# Altium footprint library HAKATAYA.PcbLib: 227 footprints (part 4 of 15)
Each footprint in its own frame and in the unit in brackets; x right, y up, seen from the top. Pads: shape width x height; smd on the part's side, far side on the other; paste and mask are expansions set on the pad; w line width, h text height; cw(c..) or ccw(c..) is an arc to the next point about the centre after c.
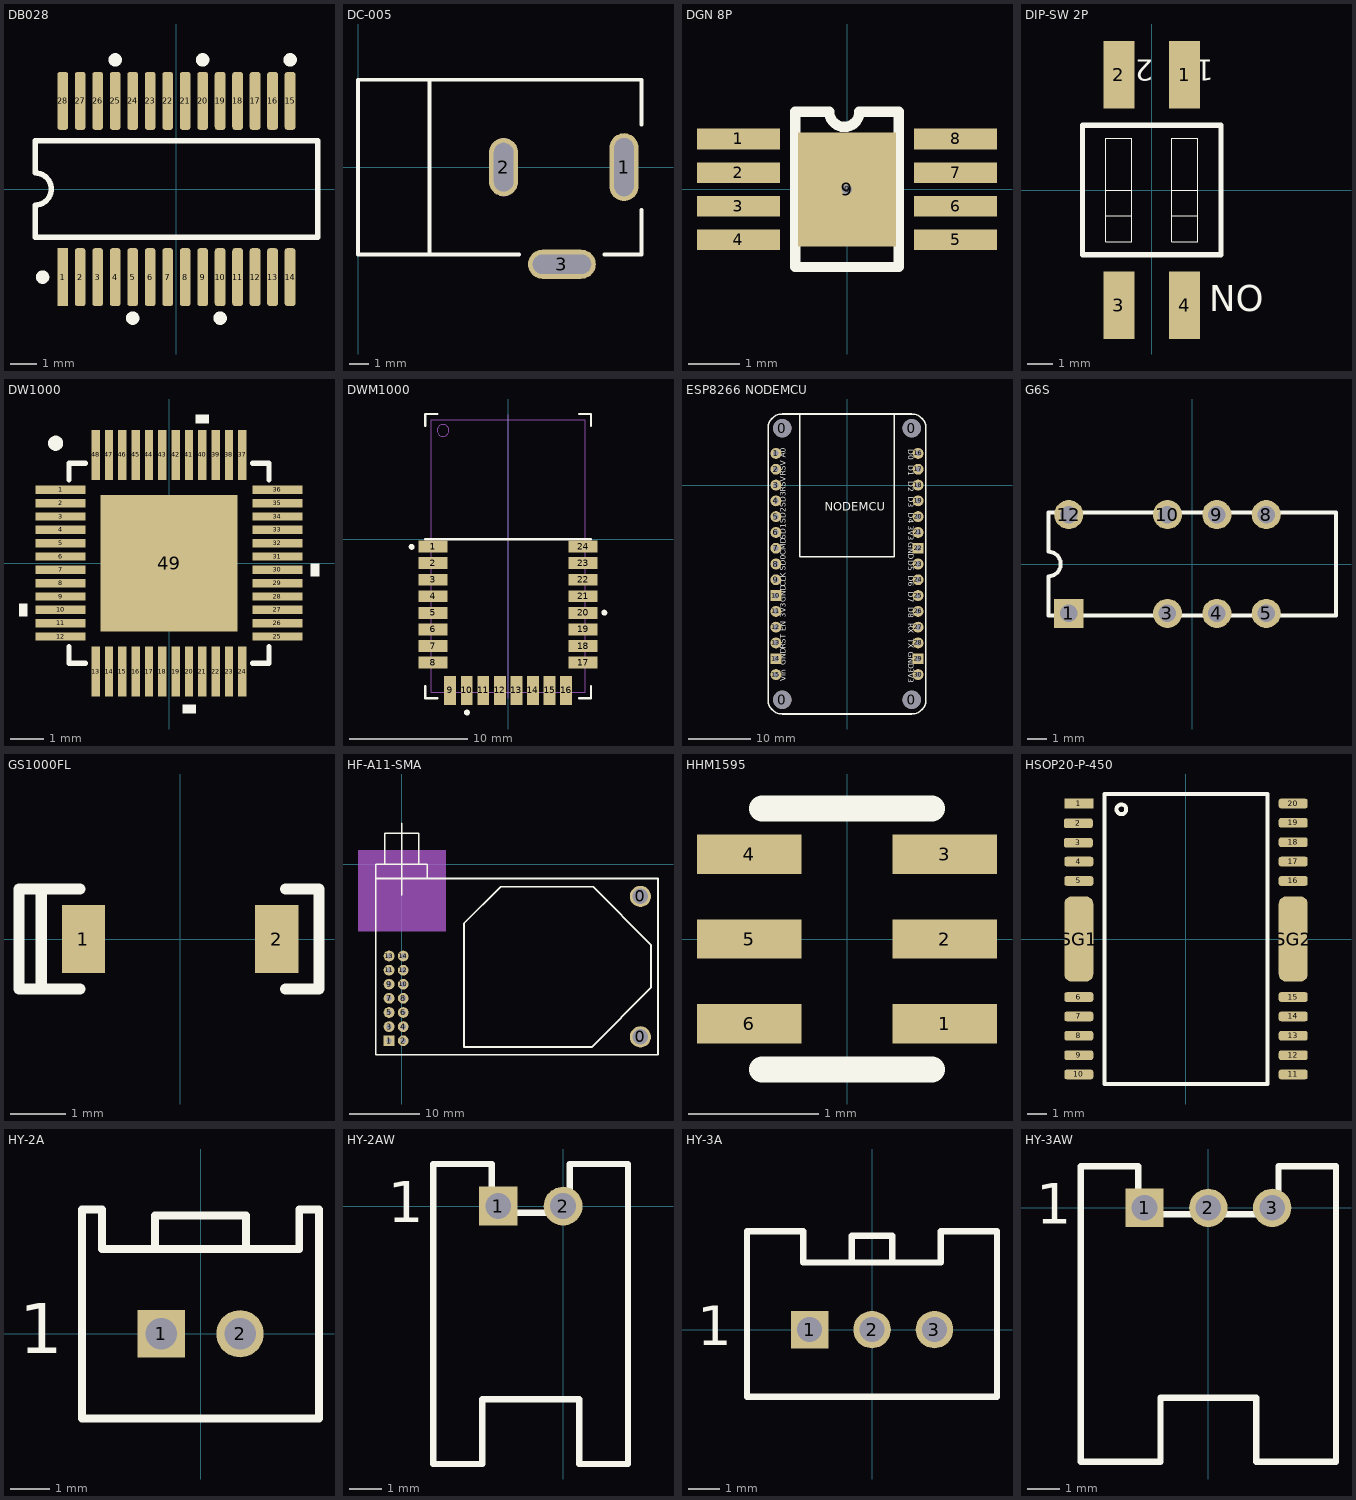
[diagram p3: the footprints below, top view; thin cyan lines are the x and y axes]

## DB028 [mm] "SSOP, Plastic; 28 Leads; Body Width 5.3 mm; Pitch 0.65 mm"
height 2
pads (28):
  rect 0.4x2.15 smd: 1(-4.225,-3.275)
  rrect50% 0.4x2.15 smd: 2(-3.575,-3.275) 3(-2.925,-3.275) 4(-2.275,-3.275) 5(-1.625,-3.275) 6(-0.975,-3.275) 7(-0.325,-3.275) 8(0.325,-3.275) 9(0.975,-3.275) 10(1.625,-3.275) 11(2.275,-3.275) 12(2.925,-3.275) 13(3.575,-3.275) 14(4.225,-3.275) 15(4.225,3.275) 16(3.575,3.275) 17(2.925,3.275) 18(2.275,3.275) 19(1.625,3.275) 20(0.975,3.275) 21(0.325,3.275) 22(-0.325,3.275) 23(-0.975,3.275) 24(-1.625,3.275) 25(-2.275,3.275) 26(-2.925,3.275) 27(-3.575,3.275) 28(-4.225,3.275)
Top Overlay:
  circle w0.25: c-4.975,-3.275 r0.125
  circle w0.25: c-1.625,-4.8 r0.125
  circle w0.25: c1.625,-4.8 r0.125
  circle w0.25: c4.225,4.8 r0.125
  circle w0.25: c0.975,4.8 r0.125
  circle w0.25: c-2.275,4.8 r0.125
  lines w0.2: -5.25,-1.8 5.25,-1.8 5.25,1.8 -5.25,1.8 -5.25,0.6 cw(c-5.25,0) -5.25,-0.6 -5.25,-1.8

## DC-005 [mm] "DC-JACK"
pads (3):
  oval 1.5x3.5 hole 1 slot 3 at 90 deg: 1(13.7,0)
  oval 1.5x3 hole 1 slot 2.5 at 90 deg: 2(7.5,0)
  oval 3.5x1.5 hole 1 slot 3 at 0 deg: 3(10.5,-5)
Top Overlay:
  lines w0.2: 3.683,-4.5 3.683,4.5 ; 8.3,-4.5 0,-4.5 0,4.5 14.6,4.5 14.6,2.2 ; 12.7,-4.5 14.6,-4.5 14.6,-2.2
Mechanical 1:
  lines w1: 7.5,-1 7.5,1

## DGN 8P [mm] "PowerPAD PLASTIC SMALL OUTLINE Pitch 0.65mm 3x4.9mm"
height 1.1
pads (10):
  round 0.2 hole 0.2: 0(0,0)
  rect 1.6x0.4 smd mask+0.07: 1(-2.1,0.975) 2(-2.1,0.325) 3(-2.1,-0.325) 4(-2.1,-0.975) 5(2.1,-0.975) 6(2.1,-0.325) 7(2.1,0.325) 8(2.1,0.975)
  rect 1.9x2.2 smd mask+0.07: 9(0,0)
Top Overlay:
  lines w0.2: -0.344,1.5 -1,1.5 -1,-1.5 1,-1.5 1,1.5 0.24,1.5 ; -0.343,1.5 ccw(c-0.051,1.5) 0.24,1.496

## DIP-SW 2P [mm] "2.54mm"
pads (4):
  rect 1.2x2.6 smd: 1(1.27,4.45) 2(-1.27,4.45) 3(-1.27,-4.45) 4(1.27,-4.45)
Top Overlay:
  lines w0.025: -1.77,-1 -0.77,-1 ; -1.77,0 -0.77,0 ; 0.77,-1 1.77,-1 ; 0.77,0 1.77,0 ; -1.77,-2 -0.77,-2 -0.77,2 -1.77,2 -1.77,-2 ; 0.77,-2 1.77,-2 1.77,2 0.77,2 0.77,-2
  lines w0.2: -2.67,-2.5 2.67,-2.5 2.67,2.5 -2.67,2.5 -2.67,-2.5
  text "ON" at 4.318,-3.678 h1
  text "1" at 2.386,5.032 h0.8
  text "2" at 0.061,5.032 h0.8

## DW1000 [mm] "Pitch:0.4mm"
height 0.85
pads (49):
  rect 1.5x0.25 smd mask+0.127: 1(-3.25,2.2) 2(-3.25,1.8) 3(-3.25,1.4) 4(-3.25,1) 5(-3.25,0.6) 6(-3.25,0.2) 7(-3.25,-0.2) 8(-3.25,-0.6) 9(-3.25,-1) 10(-3.25,-1.4) 11(-3.25,-1.8) 12(-3.25,-2.2) 25(3.25,-2.2) 26(3.25,-1.8) 27(3.25,-1.4) 28(3.25,-1) 29(3.25,-0.6) 30(3.25,-0.2) 31(3.25,0.2) 32(3.25,0.6) 33(3.25,1) 34(3.25,1.4) 35(3.25,1.8) 36(3.25,2.2)
  rect 0.25x1.5 smd mask+0.127: 13(-2.2,-3.25) 14(-1.8,-3.25) 15(-1.4,-3.25) 16(-1,-3.25) 17(-0.6,-3.25) 18(-0.2,-3.25) 19(0.2,-3.25) 20(0.6,-3.25) 21(1,-3.25) 22(1.4,-3.25) 23(1.8,-3.25) 24(2.2,-3.25) 37(2.2,3.25) 38(1.8,3.25) 39(1.4,3.25) 40(1,3.25) 41(0.6,3.25) 42(0.2,3.25) 43(-0.2,3.25) 44(-0.6,3.25) 45(-1,3.25) 46(-1.4,3.25) 47(-1.8,3.25) 48(-2.2,3.25)
  rect 4.1x4.1 smd mask-3.734: 49(0,0)
Top Overlay:
  circle w0.254: c-3.4,3.6 r0.1
  region: -4.246,-1.209 -4.5,-1.209 -4.5,-1.59 -4.246,-1.59
  region: 1.191,4.2 0.81,4.2 0.81,4.454 1.191,4.454
  region: 4.246,-0.009 4.5,-0.009 4.5,-0.39 4.246,-0.39
  region: 0.8,-4.246 0.419,-4.246 0.419,-4.5 0.8,-4.5
  lines w0.152: -3,-2.5 -3,-3 -2.5,-3 ; -3,2.5 -3,3 -2.5,3 ; 2.5,-3 3,-3 3,-2.5 ; 2.5,3 3,3 3,2.5

## DWM1000 [mm] "UWB MODULE"
height 2.95
pads (24):
  rect 2.45x1 smd: 1(-6.345,-0.614) 2(-6.345,-2.014) 3(-6.345,-3.414) 4(-6.345,-4.814) 5(-6.345,-6.214) 6(-6.345,-7.614) 7(-6.345,-9.014) 8(-6.345,-10.414) 17(6.345,-10.414) 18(6.345,-9.014) 19(6.345,-7.614) 20(6.345,-6.214) 21(6.345,-4.814) 22(6.345,-3.414) 23(6.345,-2.014) 24(6.345,-0.614)
  rect 1x2.45 smd: 9(-4.9,-12.759) 10(-3.5,-12.759) 11(-2.1,-12.759) 12(-0.7,-12.759) 13(0.7,-12.759) 14(2.1,-12.759) 15(3.5,-12.759) 16(4.9,-12.759)
Top Overlay:
  circle w0.25: c8.13,-6.198 r0.125
  circle w0.25: c-3.478,-14.63 r0.125
  circle w0.25: c-8.151,-0.635 r0.125
  lines w0.2: -7,-12.414 -7,-13.414 -6,-13.414 ; -7,0.011 7,0.011 ; -7,9.586 -7,10.586 -6,10.586 ; 6,-13.414 7,-13.414 7,-12.414 ; 6,10.586 7,10.586 7,9.586
Mechanical 13:
  circle w0.1: c-5.504,9.195 r0.5
  lines w0.1: -6.5,-12.914 6.5,-12.914 6.5,10.086 -6.5,10.086 -6.5,-12.914
Mechanical 15:
  lines w0.1: 0,-13.414 0,10.516

## ESP8266 NODEMCU [mil] "ESP-12E"
pads (34):
  round 115 hole 115 unplated paste-300 mask-300: 0(-410,-1360) 0(-410,360) 0(410,-1360) 0(410,360)
  round 69 hole 35: 1(-450,200) 2(-450,100) 3(-450,0) 4(-450,-100) 5(-450,-200) 6(-450,-300) 7(-450,-400) 8(-450,-500) 9(-450,-600) 11(-450,-800) 12(-450,-900) 13(-450,-1000) 15(-450,-1200) 16(450,200) 17(450,100) 18(450,0) 19(450,-100) 20(450,-200) 21(450,-300) 23(450,-500) 24(450,-600) 25(450,-700) 26(450,-800) 27(450,-900) 28(450,-1000) 30(450,-1200)
  rect 69x69 hole 35: 10(-450,-700) 14(-450,-1100) 22(450,-400) 29(450,-1100)
Top Overlay:
  lines w10: -300,450 -300,-453.75 300,-453.75 300,450 ; -500,-1360 ccw(c-410,-1360) -410,-1450 410,-1450 ccw(c410,-1360) 500,-1360 500,360 ccw(c410,360) 410,450 -410,450 ccw(c-410,360) -500,360 -500,-1360
  text "Vin" at -375,-1241 h60
  text "GND" at -375,-1141 h60
  text "RST" at -375,-1038 h60
  text "EN" at -375,-926 h60
  text "3V3" at -375,-839 h60
  text "GND" at -375,-742 h60
  text "CLK" at -375,-644 h60
  text "SD0" at -375,-543.57 h60
  text "CMD" at -375,-443.14 h60
  text "SD1" at -375,-342.71 h60
  text "SD2" at -375,-242.29 h60
  text "SD3" at -375,-141.86 h60
  text "RSV" at -375,-41.43 h60
  text "RSV" at -375,59 h60
  text "A0" at -375,173 h60
  text "D0" at 375,226 h60
  text "D1" at 375,124.65 h60
  text "D2" at 375,24.42 h60
  text "D3" at 375,-75.58 h60
  text "D4" at 375,-174 h60
  text "3V3" at 375,-259.01 h60
  text "GND" at 375,-361 h60
  text "D5" at 375,-475 h60
  text "D6" at 375,-574.12 h60
  text "D7" at 375,-675.23 h60
  text "D8" at 375,-775.11 h60
  text "RX" at 375,-874.06 h60
  text "TX" at 375,-973 h60
  text "GND" at 375,-1056.2 h60
  text "3V3" at 375,-1160 h60
  text "NODEMCU" at -141,-183 h90
Bottom Overlay:
  text "GND" at -281.56,-721.67 h70
  text "3.3V" at -249.93,-821.53 h70
  text "GND" at -281.56,-1121.13 h70
  text "Vin" at -282.65,-1221 h70
  text "3.3V" at 375,-1221 h70
  text "GND" at 375,-1121.13 h70
  text "GND" at 375,-422.06 h70
  text "3.3V" at 375,-322.2 h70
  text "Vin:5-12V DC" at 149,-1140 h60
  text "3V3:OUT@800mA" at 148.94,-1194 h60

## G6S [mm] "OMRON"
height 9.2
pads (8):
  rect 1.5x1.5 hole 0.9: 1(-6.35,-2.54)
  round 1.5 hole 0.9: 3(-1.27,-2.54) 4(1.27,-2.54) 5(3.81,-2.54) 8(3.81,2.54) 9(1.27,2.54) 10(-1.27,2.54) 12(-6.35,2.54)
Top Overlay:
  lines w0.2: -7.4,-2.65 -7.4,-0.635 ccw(c-7.4,0) -7.4,0.635 -7.4,2.65 7.4,2.65 7.4,-2.65 -7.4,-2.65

## GS1000FL [mm] "DIODE"
height 1.08
pads (2):
  rect 0.78x1.22 smd: 1(-1.74,0) 2(1.74,0)
Top Overlay:
  lines w0.2: -2.5,-0.9 -2.5,0.9 ; -1.8,-0.9 -2.9,-0.9 -2.9,0.9 -1.8,0.9 ; 1.9,-0.9 2.5,-0.9 2.5,0.9 1.9,0.9

## HF-A11-SMA [mil]
height 314.96
pads (16):
  round 118.11 hole 86.61: 0(1330.71,-962.6) 0(1330.71,-179.13)
  rect 60x60 hole 30: 1(-70.87,-984.25)
  round 60 hole 30: 2(7.87,-984.25) 3(-70.87,-905.51) 4(7.87,-905.51) 5(-70.87,-826.77) 6(7.87,-826.77) 7(-70.87,-748.03) 8(7.87,-748.03) 9(-70.87,-669.29) 10(7.87,-669.29) 11(-70.87,-590.55) 12(7.87,-590.55) 13(-70.87,-511.81) 14(7.87,-511.81)
Top Overlay:
  lines w10: -94.49,0 -94.49,173.23 94.49,173.23 94.49,0 ; 0,-170.87 0,229.13 ; 141.73,-78.74 141.73,0 -145.67,0 -145.67,-78.74 ; -145.67,-78.74 1429.13,-78.74 1429.13,-1062.99 -145.67,-1062.99 -145.67,-78.74 ; 346.46,-1019.68 346.46,-330.71 551.18,-125.98 1066.93,-125.98 1389.76,-448.82 1389.76,-688.98 1059.06,-1019.68 346.46,-1019.68
Mechanical 1:
  rectangle: -244.09,-374.02 248.03,78.74

## HHM1595 [mm] "TDK MULTILAYER BALUN 2x1.25x0.95"
height 0.95
pads (6):
  rect 0.8x0.3 smd: 1(0.75,-0.65) 2(0.75,0) 3(0.75,0.65) 4(-0.75,0.65) 5(-0.75,0) 6(-0.75,-0.65)
Top Overlay:
  lines w0.2: -0.65,-1 0.65,-1 ; -0.65,1 0.65,1

## HSOP20-P-450 [mm] "TB6549FG"
height 2.7
pads (22):
  rect 1.5x0.5 smd: 1(-5.527,7)
  rrect50% 1.5x0.5 smd: 2(-5.552,5.975) 3(-5.552,4.975) 4(-5.527,4) 5(-5.527,3) 6(-5.527,-3) 7(-5.527,-4) 8(-5.527,-5) 9(-5.527,-6) 10(-5.527,-7) 11(5.553,-7) 12(5.553,-6) 13(5.553,-5) 14(5.553,-4) 15(5.553,-3) 16(5.553,3) 17(5.553,4) 18(5.553,5) 19(5.553,6) 20(5.553,7)
  rrect50% 1.5x4.4 smd: SG1(-5.527,0) SG2(5.553,0)
Top Overlay:
  lines w0.2: -4.192,-7.5 4.218,-7.5 ; -4.192,-7.45 -4.192,7.5 4.198,7.5 ; -3.078,6.718 ccw(c-3.327,6.7) -3.077,6.7 ; 4.218,-7.475 4.218,7.5

## HY-2A [mm] "YOLINK PHB CONNECTOR A2006-xxA 2.00mm"
height 7.8
pads (2):
  rect 1.2x1.2 hole 0.8: 1(-1,0)
  round 1.2 hole 0.8: 2(1,0)
Top Overlay:
  lines w0.2: -1.15,2.15 -1.15,3 1.15,3 1.15,2.15 ; -3,-2.15 -3,3.15 -2.5,3.15 -2.5,2.15 2.5,2.15 2.5,3.15 3,3.15 3,-2.15 -3,-2.15
  text "1" at -4.6,-0.5 h1.27

## HY-2AW [mm] "YOLINK PHB CONNECTOR A2006-xxA 2.00mm"
height 5.1
pads (2):
  rect 1.2x1.2 hole 0.8: 1(-2,0)
  round 1.2 hole 0.8: 2(0,0)
Top Overlay:
  lines w0.2: -4,-7.95 -2.5,-7.95 -2.5,-5.95 0.5,-5.95 0.5,-7.95 2,-7.95 2,1.3 0.2,1.3 0.2,-0.2 -2.2,-0.2 -2.2,1.3 -4,1.3 -4,-7.95
  text "1" at -5.4,-0.5 h1.27

## HY-3A [mm] "YOLINK PHB CONNECTOR A2006-xxA 2.00mm"
height 7.8
pads (3):
  rect 1.2x1.2 hole 0.8: 1(-2,0)
  round 1.2 hole 0.8: 2(0,0) 3(2,0)
Top Overlay:
  lines w0.2: -0.65,2.15 -0.65,3 0.65,3 0.65,2.15 ; -4,-2.15 4,-2.15 4,3.15 2.2,3.15 2.2,2.15 -2.2,2.15 -2.2,3.15 -4,3.15 -4,-2.15
  text "1" at -5.6,-0.5 h1.27

## HY-3AW [mm] "YOLINK PHB CONNECTOR A2006-xxA 2.00mm"
height 5.1
pads (3):
  rect 1.2x1.2 hole 0.8: 1(-2,0)
  round 1.2 hole 0.8: 2(0,0) 3(2,0)
Top Overlay:
  lines w0.2: -4,-7.95 -4,1.3 -2.2,1.3 -2.2,-0.2 2.2,-0.2 2.2,1.3 4,1.3 4,-7.95 1.5,-7.95 1.5,-5.95 -1.5,-5.95 -1.5,-7.95 -4,-7.95
  text "1" at -5.4,-0.5 h1.27